# Altium footprint library FootPrintLib_5.PCBLIB: 254 footprints (part 2 of 16)
Each footprint in its own frame and in the unit in brackets; x right, y up, seen from the top. Pads: shape width x height; smd on the part's side, far side on the other; paste and mask are expansions set on the pad; w line width, h text height; cw(c..) or ccw(c..) is an arc to the next point about the centre after c.
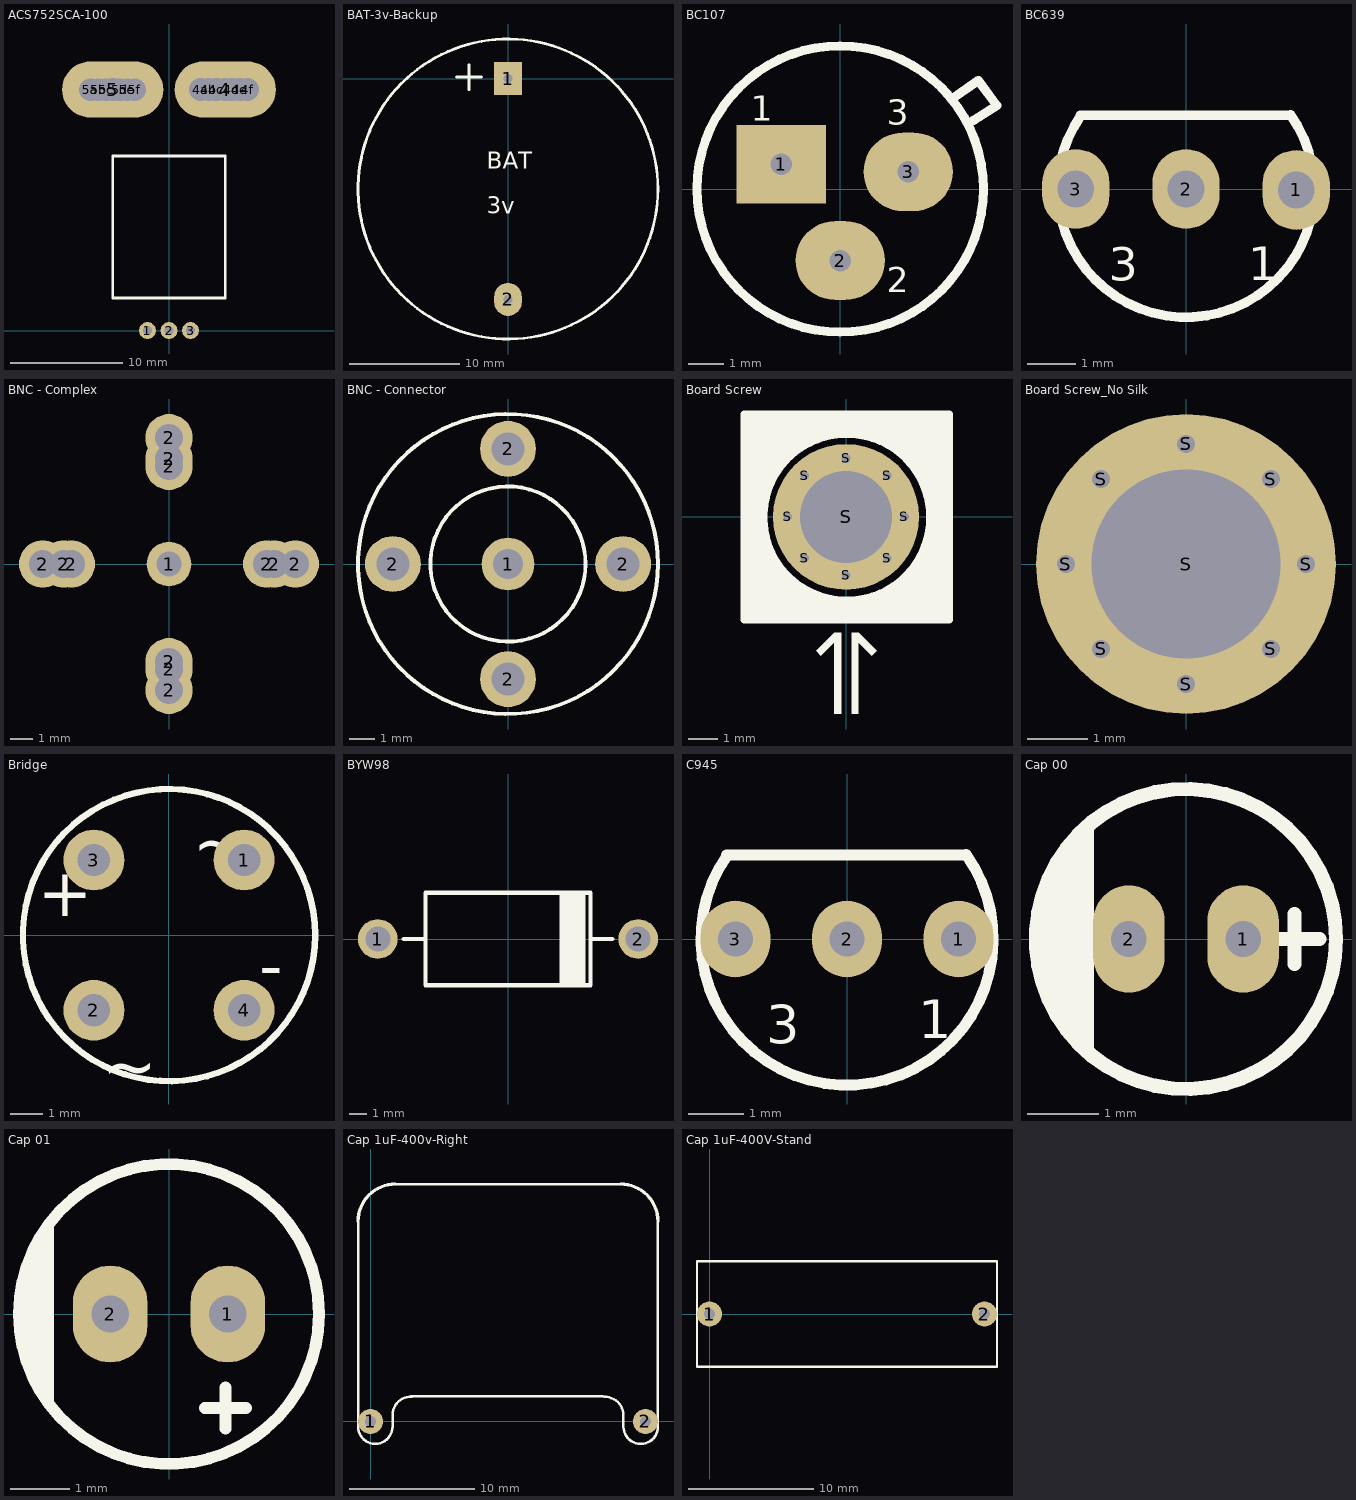
[diagram p1: the footprints below, top view; thin cyan lines are the x and y axes]

## ACS752SCA-100 [mil]
height 295.28
pads (17):
  round 59.06 hole 31.5: 1(-75.2,0) 2(0,0) 3(75.2,0)
  oval 353.63x196.63 hole 80: 4(196.85,842.52) 5(-196.85,842.52)
  round 70 hole 80: 4a(110.78,842.52) 4b(139,842.52) 4c(165.52,842.52) 4d(220.26,842.52) 4e(247,842.52) 4f(275,842.52) 5a(-275,842) 5b(-246,842) 5c(-220,842) 5d(-173,842) 5e(-146,842) 5f(-120,842)
Top Overlay:
  lines w10: -196.85,114.17 196.85,114.17 196.85,610.24 -196.85,610.24 -196.85,114.17
3D body: height 159.45, standoff -118.11, extent -9.84,-7.48 9.84,7.48
3D body: height 287.4, standoff 11.81, extent -196.85,114.17 196.85,610.24
3D body: height 177.17, standoff 118.11, extent -277.56,283.46 -116.14,874.02
3D body: height 177.17, standoff 118.11, extent 116.14,283.46 277.56,874.02
3D body: height 118.11, standoff -125.98, extent -277.56,811.02 -116.14,874.02
3D body: height 118.11, standoff -125.98, extent 116.14,811.02 277.56,874.02
3D body: height 159.45, standoff -118.11, extent -85.04,-7.48 -65.35,7.48
3D body: height 159.45, standoff -118.11, extent 65.35,-7.48 85.04,7.48
3D body: height 174.41, standoff 159.45, extent 65.35,-7.48 85.04,114.17
3D body: height 174.41, standoff 159.45, extent -9.84,-7.48 9.84,114.17
3D body: height 174.41, standoff 159.45, extent -85.04,-7.48 -65.35,114.17

## BAT-3v-Backup [mm]
pads (2):
  rect 2.5x3 hole 0.8: 1(0,0)
  oval 2.5x3 hole 0.8: 2(0,-20)
Top Overlay:
  circle w0.254: c0,-10 r13.58
  lines w0.254: -4.67,0.14 -2.41,0.14 ; -3.52,-1.01 -3.52,1.25
  text "3v" at -1.905,-12.25 h1.52
  text "BAT" at -1.905,-8.18 h1.52

## BC107 [mm]
pads (3):
  rect 2.5x2.2 hole 0.6: 1(-1.64,0.69)
  oval 2.5x2.2 hole 0.6: 2(0,-2) 3(1.9,0.48)
Top Overlay:
  circle w0.254: c0,0 r4
  lines w0.254: 3.14,2.54 3.86,3.03 4.38,2.33 3.73,1.92
  text "2" at 1.295,-2.88 h0.7
  text "1" at -2.5,1.9 h0.7
  text "3" at 1.295,1.79 h0.7

## BC639 [mil] "NPN Transistorq"
height 322.83
pads (3):
  oval 55x65 hole 30: 1(90,-0.79) 2(0,0) 3(-90,0)
Top Overlay:
  lines w7.87: -86.22,60.24 84.65,60.24 ; -85.85,59.98 ccw(c0,0) 85.32,60.72
  text "1" at 51,-74.41 h27.56
  text "3" at -62.99,-74.8 h27.56
3D body "SW3dPS-TO-92A.STEP": height 314.96, standoff -118.11, extent -90.55,-94.49 98.43,60.24

## BNC - Complex [mil]
pads (13):
  round 80 hole 45: 1(0,0)
  round 85 hole 50: 2(-226.38,0) 2(-188.98,0) 2(-175.2,0) 2(0,-226.38) 2(0,-188.98) 2(0,-175.2) 2(0,175.2) 2(0,188.98) 2(0,226.38) 2(175.2,0) 2(188.98,0) 2(226.38,0)
3D body "BNC_complex.STEP": height 1369.68, standoff -173.23, extent -278,-278.21 278,278.2

## BNC - Connector [mil]
pads (5):
  round 80 hole 45: 1(0,0)
  round 85 hole 50: 2(-175.2,0) 2(0,-175.2) 2(0,175.2) 2(175.2,0)
Top Overlay:
  circle w5.91: c0,0 r228.35
  circle w5.91: c0,0 r118.11
3D body "My BNC Short.STEP": height 538.19, standoff -173.23, extent -218.11,-218.11 218.11,218.11

## Board Screw [mm]
pads (9):
  round 0.6 hole 0.3: S(-2,0) S(-1.414,-1.414) S(-1.414,1.414) S(0,-2) S(0,2) S(1.414,-1.414) S(1.414,1.414) S(2,0)
  round 5 hole 3.15 mask+0.1: S(0,0)
Top Overlay:
  circle w0.889: c0.025,-0.012 r3.165
  region: 0.433,-3.957 0.253,-4.137 0.882,-4.765 1.062,-4.586
  rectangle: 0.179,-6.751 0.433,-3.957
  region: -1.038,-4.586 -0.859,-4.765 -0.23,-4.137 -0.41,-3.957
  region: -0.156,-3.957 -0.41,-3.957 -0.41,-6.751 -0.156,-6.751
  region: -3.492,-3.528 -3.489,-3.531 -0.749,-3.531 -0.749,-3.482 -3.492,-0.739
  region: 3.559,-3.526 3.556,-3.528 0.816,-3.528 0.816,-3.479 3.559,-0.736
  region: 3.559,3.508 3.556,3.51 0.816,3.51 0.816,3.461 3.559,0.718
  region: -3.492,3.505 -3.489,3.508 -0.749,3.508 -0.749,3.458 -3.492,0.716
  lines w0.254: -3.494,-3.511 -3.494,3.522 3.539,3.522 ; -3.492,-3.528 3.542,-3.528 3.542,3.505
Bottom Overlay:
  circle w0.889: c0.025,-0.012 r3.165
  region: -3.492,3.505 -3.489,3.508 -0.749,3.508 -0.749,3.458 -3.492,0.716
  region: 3.559,3.508 3.556,3.51 0.816,3.51 0.816,3.461 3.559,0.718
  region: 3.559,-3.526 3.556,-3.528 0.816,-3.528 0.816,-3.479 3.559,-0.736
  region: -3.492,-3.528 -3.489,-3.531 -0.749,-3.531 -0.749,-3.482 -3.492,-0.739
  lines w0.254: -3.494,-3.511 -3.494,3.522 3.539,3.522 ; -3.492,-3.528 3.542,-3.528 3.542,3.505

## Board Screw_No Silk [mm]
pads (9):
  round 0.6 hole 0.3: S(-2,0) S(-1.414,-1.414) S(-1.414,1.414) S(0,-2) S(0,2) S(1.414,-1.414) S(1.414,1.414) S(2,0)
  round 5 hole 3.15 mask+0.1: S(0,0)

## Body [mm]
3D body "Body Base2.STEP": height 0.5, standoff -12.5, extent -3.7,-4.2 106.448,105.796

## Bridge [mm]
height 5.1
pads (4):
  round 1.905 hole 1.016: 1(2.35,2.35) 2(-2.35,-2.35) 3(-2.35,2.35) 4(2.35,-2.35)
Top Overlay:
  circle w0.2: c0,0 r4.572
  text "-" at 2.819,-1.676 h1.5
  text "+" at -4.115,0.584 h1.5
  text "~" at -2.085,-4.816 h1.5
  text "~" at 0.737,2.159 h1.5
3D body "bridge.STEP": height 5.21, standoff -1.9, extent -3.923,-4.064 4.177,4.036

## BYW98 [mil]
pads (2):
  round 90 hole 57: 1(-295,0) 2(295,0)
Top Overlay:
  region: 175.2,105 175.2,-105 117.72,-105 117.72,105
  lines w10: -236.22,0 -187,0 ; 187,0 236.22,0 ; -187,-105 -187,105 187,105 187,-105 -187,-105
3D body "BYW98.STEP": height 254.33, standoff -86.22, extent -320.47,-105.51 321.26,103.15

## C945 [mil] "NPN Transistor"
height 236.22
pads (3):
  oval 50x55 hole 25: 1(80,0) 2(0,0) 3(-80,0)
Top Overlay:
  lines w7.87: -86.22,60.24 84.65,60.24 ; -85.85,59.98 ccw(c0,0) 85.32,60.72
  text "3" at -58,-75 h27.56
  text "1" at 51,-71.26 h27.56
3D body "SW3dPS-TO-92A.STEP": height 314.96, standoff -118.11, extent -94,-96.36 94.98,58.36

## Cap 00 [mm]
pads (2):
  oval 1x1.5 hole 0.5: 1(0.8,0) 2(-0.8,0)
Top Overlay:
  circle w0.2: c0,0 r2.1
  lines w0.2: -1.93,-0.76 -1.93,0.8 -1.92,0.81 ; -1.75,-1.12 -1.75,1.15 ; -1.57,1.36 -1.57,-1.33 -1.56,-1.34 ; -1.39,-1.54 -1.39,1.55 ; 1.17,0 1.87,0 ; 1.52,-0.35 1.52,0.35

## Cap 01 [mm]
pads (2):
  oval 1.27x1.651 hole 0.635: 1(1,0) 2(-1,0)
Top Overlay:
  circle w0.2: c0,0 r2.55
  region: -1.956,-1.651 -1.956,1.626 -2.21,1.295 -2.388,0.914 -2.54,0.279 -2.515,-0.457 -2.337,-1.118
  lines w0.2: 0.61,-1.6 1.31,-1.6 ; 0.96,-1.95 0.96,-1.25
3D body "SW3dPS-Cap electro 5x11x2mm.STEP": height 12.54, standoff -2.26, extent -2.525,-2.525 2.526,2.526

## Cap 1uF-400v-Right [mm]
pads (2):
  round 2 hole 0.85: 1(0,0) 2(22,0)
Top Overlay:
  lines w0.2: -1,16 -1,-0.4 ccw(c0.38,-0.4) 1.76,-0.4 1.76,0.52 cw(c3.236,0.514) 3.305,1.988 ; 2,19 20,19 ; 3.2,2 18.59,2.003 ; 18.695,1.968 cw(c18.764,0.494) 20.24,0.5 20.24,-0.42 ccw(c21.62,-0.42) 23,-0.42 23,16
  lines w0.254: -1.001,16 cw(c2,16) 2,19.001 ; 20,19.001 cw(c20,16) 23.001,16

## Cap 1uF-400V-Stand [mm]
height 16.65
pads (2):
  round 2 hole 0.85: 1(0,0) 2(22,0)
Top Overlay:
  lines w0.2: -1,-4.23 -1,4.23 23,4.23 23,-4.23 -1,-4.23